# EAGLE library part DAC5578SPWR (library DAC5578)
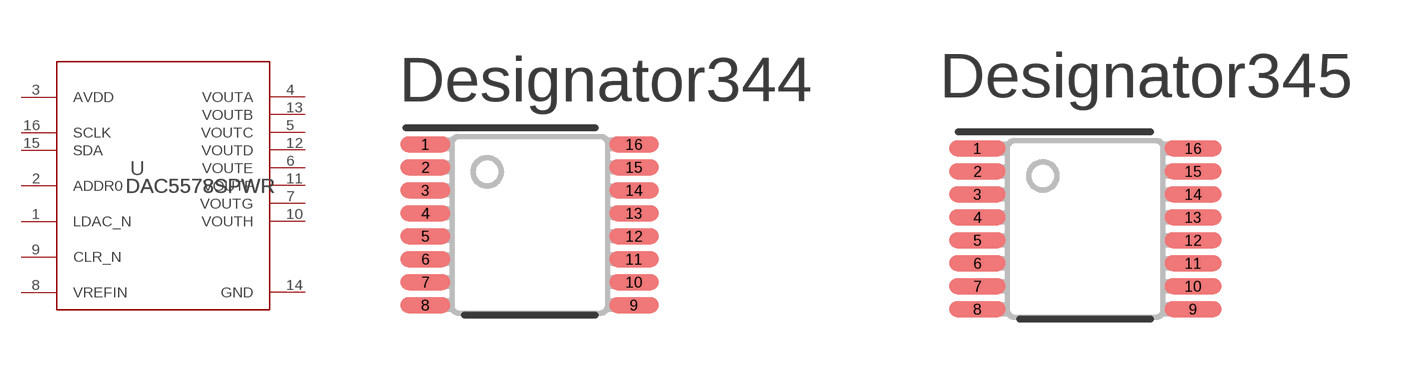
[diagram p0: symbol with the pads of PW0016A_N; footprints PW0016A_N, PW0016A_M]

Designator prefix U

## DAC5578SPWRPW0016A_N (Copyright: Copyright (C) 2022 Ultra Librarian. All rights reserved.; Manufacturer_Part_Number: DAC5578SPWR; Mfr_Name: Texas Instruments; RefDes: RefDes; TYPE: TYPE)  [PW0016A_N]
1  LDAC_N  in
2  ADDR0  in
3  AVDD  pwr
4  VOUTA  out
5  VOUTC  out
6  VOUTE  out
7  VOUTG  out
8  VREFIN  in
9  CLR_N  in
10  VOUTH  out
11  VOUTF  out
12  VOUTD  out
13  VOUTB  out
14  GND  pwr
15  SDA
16  SCLK  in

## DAC5578SPWRPW0016A_M (Copyright: Copyright (C) 2022 Ultra Librarian. All rights reserved.; Manufacturer_Part_Number: DAC5578SPWR; Mfr_Name: Texas Instruments; RefDes: RefDes; TYPE: TYPE)  [PW0016A_M]
Pads as for PW0016A_N

## DAC5578SPWRPW0016A_L (Copyright: Copyright (C) 2022 Ultra Librarian. All rights reserved.; Manufacturer_Part_Number: DAC5578SPWR; Mfr_Name: Texas Instruments; RefDes: RefDes; TYPE: TYPE)  [PW0016A_L]
Pads as for PW0016A_N

## Footprint PW0016A_N (pad centres in mm)
smd 1.4 x 0.45: 1 -2.95,2.275; 2 -2.95,1.625; 3 -2.95,0.975; 4 -2.95,0.325; 5 -2.95,-0.325; 6 -2.95,-0.975; 7 -2.95,-1.625; 8 -2.95,-2.275; 9 2.95,-2.275; 10 2.95,-1.625; 11 2.95,-0.975; 12 2.95,-0.325; 13 2.95,0.325; 14 2.95,0.975; 15 2.95,1.625; 16 2.95,2.275

## Footprint PW0016A_M (pad centres in mm)
smd 1.6 x 0.45: 1 -3.05,2.275; 2 -3.05,1.625; 3 -3.05,0.975; 4 -3.05,0.325; 5 -3.05,-0.325; 6 -3.05,-0.975; 7 -3.05,-1.625; 8 -3.05,-2.275; 9 3.05,-2.275; 10 3.05,-1.625; 11 3.05,-0.975; 12 3.05,-0.325; 13 3.05,0.325; 14 3.05,0.975; 15 3.05,1.625; 16 3.05,2.275

## Footprint PW0016A_L (pad centres in mm)
smd 1.2 x 0.4: 1 -2.85,2.275; 2 -2.85,1.625; 3 -2.85,0.975; 4 -2.85,0.325; 5 -2.85,-0.325; 6 -2.85,-0.975; 7 -2.85,-1.625; 8 -2.85,-2.275; 9 2.85,-2.275; 10 2.85,-1.625; 11 2.85,-0.975; 12 2.85,-0.325; 13 2.85,0.325; 14 2.85,0.975; 15 2.85,1.625; 16 2.85,2.275